# Altium footprint library I2C_Shield1.PcbLib: 14 footprints
Each footprint in its own frame and in the unit in brackets; x right, y up, seen from the top. Pads: shape width x height; smd on the part's side, far side on the other; paste and mask are expansions set on the pad; w line width, h text height; cw(c..) or ccw(c..) is an arc to the next point about the centre after c.
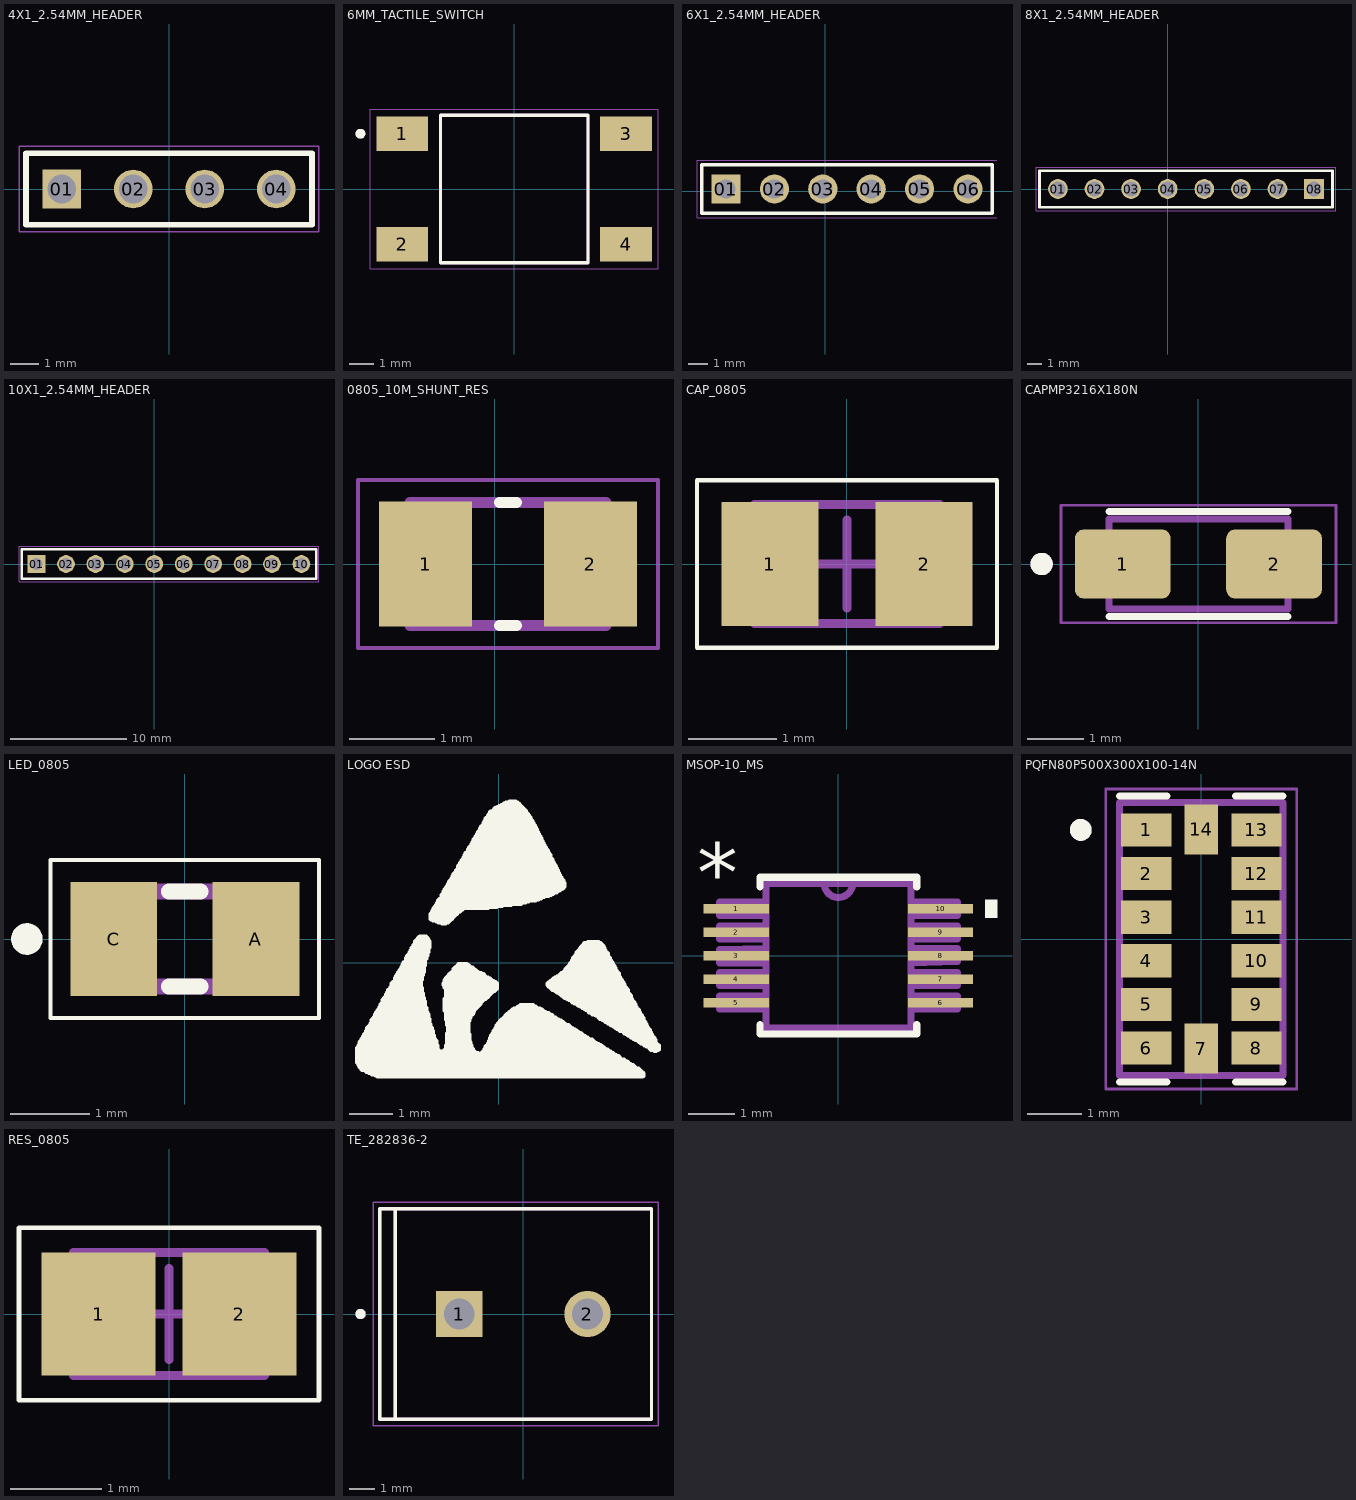
[diagram p0: the footprints below, top view; thin cyan lines are the x and y axes]

## 4X1_2.54MM_HEADER [mm]
pads (4):
  rect 1.37x1.37 hole 1.02: 01(-3.81,0)
  round 1.37 hole 1.02: 02(-1.27,0) 03(1.27,0) 04(3.81,0)
Top Overlay:
  lines w0.2: -5.08,-1.27 5.08,-1.27 5.08,1.27 -5.08,1.27 -5.08,-1.27
Mechanical 13:
  lines w0.1: -5.08,-1.27 5.08,-1.27 5.08,1.27 -5.08,1.27 -5.08,-1.27
Mechanical 15:
  lines w0.05: -5.33,-1.52 5.33,-1.52 5.33,1.52 -5.33,1.52 -5.33,-1.52
3D body "User Library-ZL262-4SG.STEP": height 8.4, standoff -3.15, extent -5.08,-1.123 5.08,1.377

## 6MM_TACTILE_SWITCH [mm]
pads (4):
  rect 2.1x1.4 smd: 1(-4.55,2.25) 2(-4.55,-2.25) 3(4.55,2.25) 4(4.55,-2.25)
Top Overlay:
  circle w0.2: c-6.25,2.25 r0.1
  lines w0.127: -3,-3 3,-3 3,3 -3,3 -3,-3
Mechanical 13:
  circle w0.2: c-6.25,2.25 r0.1
  lines w0.127: -3,-3 3,-3 3,3 -3,3 -3,-3
Mechanical 15:
  lines w0.05: -5.85,-3.25 5.85,-3.25 5.85,3.25 -5.85,3.25 -5.85,-3.25
3D body "step_temp.STEP": height 9.5, standoff 0, extent -5,-3 5,3

## 6X1_2.54MM_HEADER [mm]
pads (6):
  rect 1.53x1.53 / inner round 1.53 / far side rect 1.53x1.53 hole 1.02: 01(-5.207,0.127)
  round 1.53 hole 1.02: 02(-2.667,0.127) 03(-0.127,0.127) 04(2.413,0.127) 05(4.953,0.127) 06(7.493,0.127)
Top Overlay:
  lines w0.2: -6.477,-1.143 -6.477,1.397 8.763,1.397 8.763,-1.143 -6.477,-1.143
Mechanical 13:
  lines w0.1: -6.477,-1.143 -6.477,1.397 8.763,1.397 8.763,-1.143 -6.477,-1.143
Mechanical 15:
  lines w0.05: 9.013,-1.393 -6.727,-1.393 -6.727,1.647 9.013,1.647
3D body "User Library-SIL_Socket06_.STEP": height 8.5, standoff -10.46, extent -6.477,-1.143 8.763,1.397

## 8X1_2.54MM_HEADER [mm]
pads (8):
  round 1.37 hole 1.02: 01(-7.62,0) 02(-5.08,0) 03(-2.54,0) 04(0,0) 05(2.54,0) 06(5.08,0) 07(7.62,0)
  rect 1.37x1.37 hole 1.02: 08(10.16,0)
Top Overlay:
  lines w0.2: -8.89,-1.27 -8.89,1.27 11.43,1.27 11.43,-1.27 -8.89,-1.27
Mechanical 13:
  lines w0.1: -8.89,-1.27 -8.89,1.27 11.43,1.27 11.43,-1.27 -8.89,-1.27
Mechanical 15:
  lines w0.05: -9.14,-1.52 -9.14,1.52 11.68,1.52 11.68,-1.52 -9.14,-1.52
3D body "User Library-SIL_Socket08_.STEP": height 8.5, standoff -10.46, extent -8.89,-1.27 11.43,1.27

## 10X1_2.54MM_HEADER [mm]
pads (10):
  rect 1.53x1.53 / inner round 1.53 / far side rect 1.53x1.53 hole 1.02: 01(-10.16,0)
  round 1.53 hole 1.02: 02(-7.62,0) 03(-5.08,0) 04(-2.54,0) 05(0,0) 06(2.54,0) 07(5.08,0) 08(7.62,0) 09(10.16,0) 10(12.7,0)
Top Overlay:
  lines w0.2: -11.43,-1.27 13.97,-1.27 13.97,1.27 -11.43,1.27 -11.43,-1.27
Mechanical 13:
  lines w0.1: -11.43,-1.27 13.97,-1.27 13.97,1.27 -11.43,1.27 -11.43,-1.27
Mechanical 15:
  lines w0.05: -11.68,-1.52 14.22,-1.52 14.22,1.52 -11.68,1.52 -11.68,-1.52
3D body "User Library-SIL_Socket10_.STEP": height 8.5, standoff -10.46, extent -11.43,-1.27 13.97,1.27
3D body: height 8.5, standoff -10.46, extent 1.143,6.731 1.143,6.731

## 0805_10M_SHUNT_RES [mm]
pads (2):
  rect 1.09x1.47 smd: 1(-0.813,0) 2(1.117,0)
Top Overlay:
  lines w0.127: 0.052,-0.72 0.252,-0.72 ; 0.052,0.72 0.252,0.72
Mechanical 13:
  lines w0.127: -0.998,-0.72 -0.998,0.72 1.302,0.72 1.302,-0.72 -0.998,-0.72
Mechanical 15:
  lines w0.05: -1.606,-0.985 -1.606,0.985 1.91,0.985 1.91,-0.985 -1.606,-0.985
3D body "CSRF0805FT10L0--3DModel-STEP-1.STEP": height 0.85, standoff 0, extent -0.923,-0.65 1.177,0.65

## CAP_0805 [mm]
pads (2):
  rect 1.1x1.4 smd: 1(-0.875,0) 2(0.875,0)
Top Overlay:
  lines w0.05: -1.7,-0.95 -1.7,0.95 1.7,0.95 1.7,-0.95 -1.7,-0.95
Mechanical 13:
  lines w0.1: -1.05,-0.675 -1.05,0.675 1.05,0.675 1.05,-0.675 -1.05,-0.675
Mechanical 15:
  lines w0.1: -0.5,0 0.5,0 ; 0,-0.5 0,0.5
3D body "CAP_0805.step": height 0.85, standoff 0, extent -1.05,-0.675 1.05,0.675

## CAPMP3216X180N [mm]
pads (2):
  rrect25% 1.71x1.23 smd: 1(-1.35,0) 2(1.35,0)
Top Overlay:
  circle w0.2: c-2.8,0 r0.1
  lines w0.127: -1.6,-0.935 1.6,-0.935 ; -1.6,0.935 1.6,0.935
Mechanical 13:
  circle w0.2: c-2.8,0 r0.1
  lines w0.127: -1.6,-0.8 -1.6,0.8 1.6,0.8 1.6,-0.8 -1.6,-0.8
Mechanical 15:
  lines w0.05: -2.455,-1.05 -2.455,1.05 2.455,1.05 2.455,-1.05 -2.455,-1.05
3D body "step_temp.STEP": height 1.8, standoff 0, extent -1.6,-0.8 1.6,0.8

## LED_0805 [mm]
pads (2):
  rect 1.1x1.45 smd: A(0.9,0) C(-0.9,0)
Top Overlay:
  circle w0.2: c-2,0 r0.1
  lines w0.05: -1.7,-1 1.7,-1 1.7,1 -1.7,1 -1.7,-1
  lines w0.2: -0.2,-0.6 0.2,-0.6 ; -0.2,0.6 0.2,0.6
Mechanical 13:
  region: 1,-0.6 0.5,-0.6 0.5,0.6 1,0.6
  region: -0.5,-0.6 -1,-0.6 -1,0.6 -0.5,0.6
  lines w0.2: -1,-0.6 -1,0.6 1,0.6 1,-0.6 -1,-0.6
3D body "step_temp.STEP": height 0.7, standoff 0, extent -1,-0.625 1,0.625

## LOGO ESD [mil]
Top Overlay:
  drawing of 457 lines, arcs and shapes, not listed

## MSOP-10_MS [mil]
pads (10):
  rect 55x8 smd: 1(-86,39.4) 2(-86,19.7) 3(-86,0) 4(-86,-19.7) 5(-86,-39.4) 6(86,-39.4) 7(86,-19.7) 8(86,0) 9(86,19.7) 10(86,39.4)
Top Overlay:
  region: 133.5,31.9 123.5,31.9 123.5,46.9 133.5,46.9
  lines w6: -66,-58 -66,-66 66,-66 66,-58 ; -66,58 -66,66 66,66 66,58
  text "*" at -119,45 h50
Mechanical 13:
  lines w6: -12,61 ccw(c0,61) 12,61 ; -12,61 12,61 ; -12,61 -61,61 -61,-61 61,-61 61,61 12,61 ; -100,-45 -100,-34 -61,-34 -61,-45 -100,-45 ; -100,-25 -100,-14 -61,-14 -61,-25 -100,-25 ; -100,-6 -100,5 -61,6 -61,-6 -100,-6 ; -100,14 -100,25 -61,25 -61,14 -100,14 ; -100,34 -100,45 -61,45 -61,34 -100,34 ; 61,-45 61,-34 100,-34 100,-45 61,-45 ; 61,-25 61,-14 100,-14 100,-25 61,-25 ; 61,-6 61,6 100,6 100,-5 61,-6 ; 61,14 61,25 100,25 100,14 61,14 ; 61,34 61,45 100,45 100,34 61,34
  text "*" at -69,8 h50
3D body "step_temp.STEP": height 43.31, standoff 0, extent -96.46,-59.06 96.46,59.06

## PQFN80P500X300X100-14N [mm]
pads (14):
  rect 0.92x0.61 smd mask+0.05: 1(-1.01,2) 2(-1.01,1.2) 3(-1.01,0.4) 4(-1.01,-0.4) 5(-1.01,-1.2) 6(-1.01,-2) 8(1.01,-2) 9(1.01,-1.2) 10(1.01,-0.4) 11(1.01,0.4) 12(1.01,1.2) 13(1.01,2)
  rect 0.61x0.92 smd mask+0.05: 7(0,-2.01) 14(0,2.01)
Top Overlay:
  circle w0.2: c-2.21,2 r0.1
  lines w0.127: -1.5,-2.625 -0.63,-2.625 ; -1.5,2.625 -0.63,2.625 ; 0.63,-2.625 1.5,-2.625 ; 0.63,2.625 1.5,2.625
Mechanical 13:
  circle w0.2: c-2.21,2 r0.1
  lines w0.127: -1.5,-2.5 1.5,-2.5 1.5,2.5 -1.5,2.5 -1.5,-2.5
Mechanical 15:
  lines w0.05: -1.75,-2.75 -1.75,2.75 1.75,2.75 1.75,-2.75 -1.75,-2.75
3D body "step_temp.STEP": height 1, standoff 0, extent -1.5,-2.5 1.5,2.5

## RES_0805 [mm]
pads (2):
  rect 1.25x1.35 smd: 1(-0.775,0) 2(0.775,0)
Top Overlay:
  lines w0.05: -1.65,-0.95 -1.65,0.95 1.65,0.95 1.65,-0.95 -1.65,-0.95
Mechanical 13:
  lines w0.1: -1.05,-0.675 1.05,-0.675 1.05,0.675 -1.05,0.675 -1.05,-0.675
Mechanical 15:
  lines w0.1: -0.5,0 0.5,0 ; 0,-0.5 0,0.5
3D body "RES_0805_.step": height 0.5, standoff 0, extent -1.05,-0.675 1.05,0.675

## TE_282836-2 [mm]
pads (2):
  rect 1.8x1.8 / inner round 1.8 / far side rect 1.8x1.8 hole 1.2: 1(-2.5,0)
  round 1.8 hole 1.2: 2(2.5,0)
Top Overlay:
  circle w0.2: c-6.35,0 r0.1
  lines w0.127: -5,-4.1 5,-4.1 5,4.1 -5,4.1 ; -5,-4.1 -5,4.1 ; -5,-4.1 -5.6,-4.1 -5.6,4.1 -5,4.1
Mechanical 13:
  circle w0.2: c-6.35,0 r0.1
  lines w0.127: -5,-4.1 5,-4.1 5,4.1 -5,4.1 ; -5,-4.1 -5,4.1 ; -5,-4.1 -5.6,-4.1 -5.6,4.1 -5,4.1
Mechanical 15:
  lines w0.05: -5.85,-4.35 -5.85,4.35 5.25,4.35 5.25,-4.35 -5.85,-4.35
3D body "step_temp.STEP": height 10, standoff -3.5, extent -5.6,-4.1 5,4.1